# Altium schematic symbol library Handheld.SchLib: 57 symbols (part 1 of 2)
Pins are listed as number, name and electrical type; pins without a type are passive.

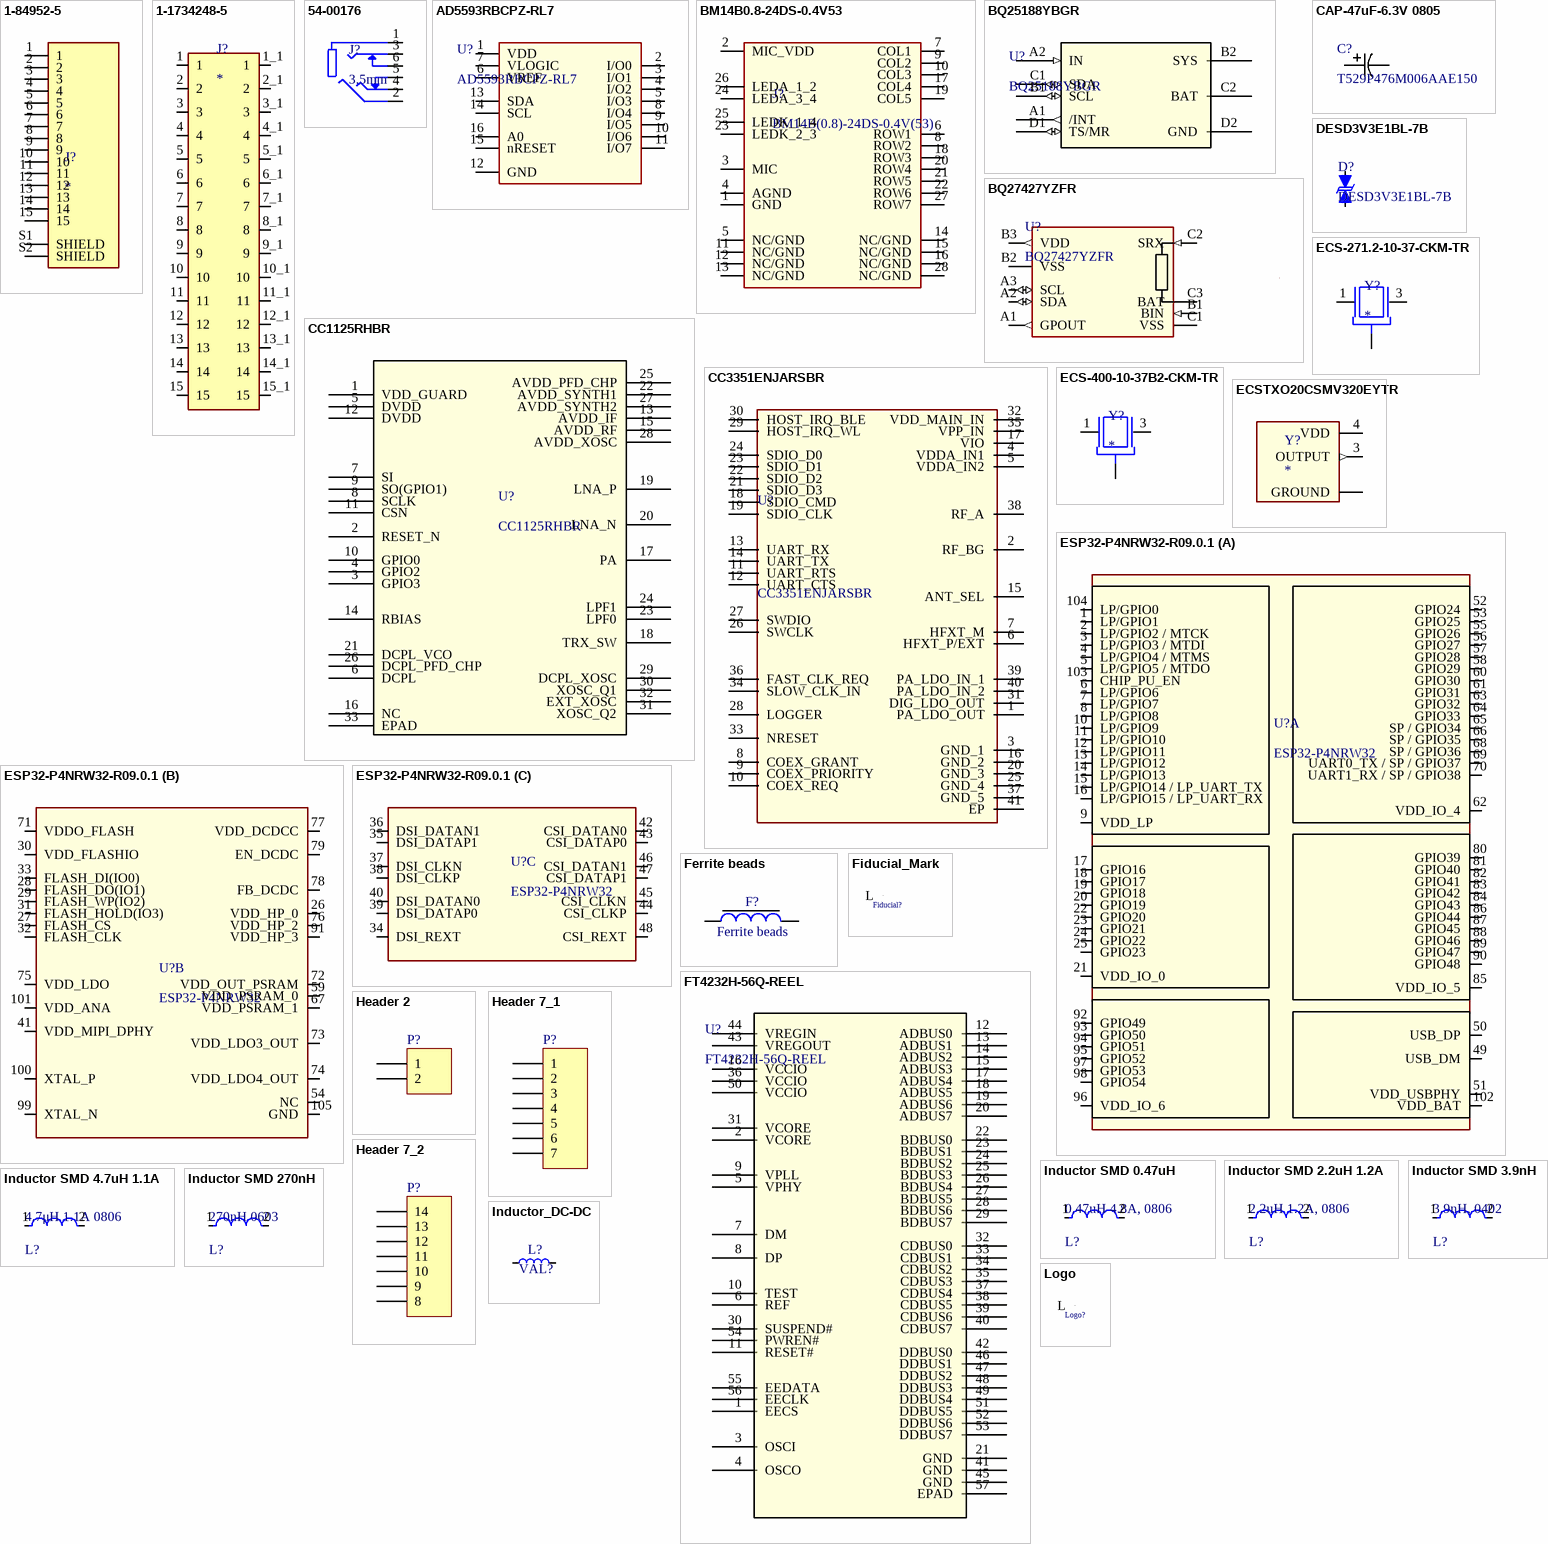
[diagram p0: symbols 1-84952-5 to Logo]

## 1-84952-5
designator J?
Conn FPC Connector SKT 15 POS 1mm Solder RA SMD T/R; MF: TE Connectivity; MP: 1-84952-5; Value: *; SnapEDA_Link: https://www.snapeda.com/parts/1-84952-5/TE+Connectivity+AMP+Connectors/view-part/?ref=snap; Purchase-URL: https://pricing.snapeda.com/search/part/1-84952-5/?ref=eda; EU_RoHS_Compliance: Compliant; Availability: In Stock; Price: None; Package: None; Check_prices: https://www.snapeda.com/parts/1-84952-5/TE+Connectivity+AMP+Connectors/view-part/?ref=eda
footprint TE_1-84952-5
pins: 1, 2, 3, 4, 5, 6, 7, 8, 9, 10, 11, 12, 13, 14, 15, S1 SHIELD, S2 SHIELD

## 1-1734248-5
designator J?
15 Position FPC Connector Contacts, Vertical - 1 Sided 0.039 (1.00mm) Surface Mount; MF: TE Connectivity; MP: 1-1734248-5; SnapEDA_Link: https://www.snapeda.com/parts/1-1734248-5/TE+Connectivity+AMP+Connectors/view-part/?ref=snap; Package: None; Value: *; Check_prices: https://www.snapeda.com/parts/1-1734248-5/TE+Connectivity+AMP+Connectors/view-part/?ref=eda
footprint TE_1-1734248-5
pins: 1, 1_1 1, 2, 2_1 2, 3, 3_1 3, 4, 4_1 4, 5, 5_1 5, 6, 6_1 6, 7, 7_1 7, 8, 8_1 8, 9, 9_1 9, 10, 10_1 10, 11, 11_1 11, 12, 12_1 12, 13, 13_1 13, 14, 14_1 14, 15, 15_1 15

## 54-00176
designator J?, comment 3.5mm
Connector, 4C audio jack, 3.5xL14 mm, thru hole, gold plated; MF: Tensility International Corp; MP: 54-00176; SnapEDA_Link: https://www.snapeda.com/parts/54-00176/Tensility/view-part/?ref=snap; Package: None; Value: *; Check_prices: https://www.snapeda.com/parts/54-00176/Tensility/view-part/?ref=eda; Supplier 1: Arrow Electronics; Supplier Part Number 1: 54-00176
footprint TENSILITY_54-00176
pins: 1, 2, 3, 4, 5, 6

## AD5593RBCPZ-RL7
designator U?
8-Channel, 12-Bit, Configurable ADC/DAC with On-Chip Reference, I2C Interface; Manufacturer_Name: Analog Devices Inc; Copyright: Copyright (C) 2025 Ultra Librarian. All rights reserved.; Manufacturer_Part_Number: AD5593RBCPZ-RL7; Datasheet: https://www.analog.com/media/en/technical-documentation/data-sheets/AD5593R.pdf; RefDes: RefDes; Type: Type
footprint CP_16_32_ADI-M
pins: 1 VDD, 2 I/O0, 3 I/O1, 4 I/O2, 5 I/O3, 6 VREF, 7 VLOGIC, 8 I/O4, 9 I/O5, 10 I/O6, 11 I/O7, 12 GND, 13 SDA, 14 SCL, 15 nRESET, 16 A0

## BM14B0.8-24DS-0.4V53
designator J?, comment BM14B(0.8)-24DS-0.4V(53)
BB Q10 keyboard connector; Manufacturer_Name: Hirose; Type: Arrays, Edge Type, Mezzanine (Board to Board); Copyright: Copyright (C) 2025 Ultra Librarian. All rights reserved.; Manufacturer_Part_Number: BM14B(0.8)-24DS-0.4V(53); RefDes: RefDes; Supplier 1: DigiKey; Supplier Part Number 1: H122178CT-ND
footprint CONN24_BM14B_HIR
pins: 1 GND, 2 MIC_VDD, 3 MIC, 4 AGND, 5 NC/GND, 6 ROW1, 7 COL1, 8 ROW2, 9 COL2, 10 COL3, 11 NC/GND, 12 NC/GND, 13 NC/GND, 14 NC/GND, 15 NC/GND, 16 NC/GND, 17 COL4, 18 ROW3, 19 COL5, 20 ROW4, 21 ROW5, 22 ROW6, 23 LEDK_2_3, 24 LEDA_3_4, 25 LEDK_1_4, 26 LEDA_1_2, 27 ROW7, 28 NC/GND

## BQ25188YBGR
designator U?
I2C, 1A single cell linear battery charger, 18V input, powerpath, ship mode and battery tracking 8-DSBGA -40 to 85; Manufacturer_Name: Texas Instruments; Copyright: Copyright (C) 2025 Ultra Librarian. All rights reserved.; Manufacturer_Part_Number: BQ25188YBGR; RefDes: RefDes; Type: Type
footprint DSBGA8_YCK_TEX
pins: A1 /INT (out), A2 IN (in), B1 SCL (io), B2 SYS (power), C1 SDA (io), C2 BAT (power), D1 TS/MR (io), D2 GND (power)

## BQ27427YZFR
designator U?
Single-cell battery fuel gauge with pre-programmed chemistry and integrated sense resistor 9-DSBGA -40 to 85; Manufacturer_Name: Texas Instruments; Copyright: Copyright (C) 2025 Ultra Librarian. All rights reserved.; Manufacturer_Part_Number: BQ27427YZFR; Datasheet: https://www.ti.com/lit/gpn/bq27427; RefDes: RefDes; Type: Type; Supplier 1: DigiKey; Supplier Part Number 1: 296-BQ27427YZFRCT-ND
footprint DSBGA9-YZF_TEX-M
pins: A1 GPOUT (out), A2 SDA (io), A3 SCL (io), B1 BIN (in), B2 VSS (power), B3 VDD (out), C1 VSS (power), C2 SRX (in), C3 BAT (power)

## CAP-47uF-6.3V 0805
designator C?, comment T529P476M006AAE150
T529, Tantalum, Polymer Tantalum, Reduced Volume, 47 uF, 20%, 6.3 VDC, SMD, Polymer, Substrate, 150 mOhms, 2012, Height Max = 1mm; Manufacturer_Name: Kemet; Copyright: Copyright (C) 2025 Ultra Librarian. All rights reserved.; Manufacturer_Part_Number: T529P476M006AAE150; Datasheet: https://content.kemet.com/datasheets/KEM_T2076_T52X-530.pdf
footprint CAPMP2.1X1.25_1N_KEM
pins: 1, 2

## CC1125RHBR
designator U?
Ultra-high performance Sub-1 GHz wireless transceiver for narrowband systems 32-VQFN -40 to 85; Manufacturer_Name: Texas Instruments; Copyright: Copyright (C) 2025 Ultra Librarian. All rights reserved.; Manufacturer_Part_Number: CC1125RHBR; RefDes: RefDes; Type: Type
footprint RHB32_3P45X3P45_TEX
pins: 1 VDD_GUARD, 2 RESET_N, 3 GPIO3, 4 GPIO2, 5 DVDD, 6 DCPL, 7 SI, 8 SCLK, 9 SO(GPIO1), 10 GPIO0, 11 CSN, 12 DVDD, 13 AVDD_IF, 14 RBIAS, 15 AVDD_RF, 16 NC, 17 PA, 18 TRX_SW, 19 LNA_P, 20 LNA_N, 21 DCPL_VCO, 22 AVDD_SYNTH1, 23 LPF0, 24 LPF1, 25 AVDD_PFD_CHP, 26 DCPL_PFD_CHP, 27 AVDD_SYNTH2, 28 AVDD_XOSC, 29 DCPL_XOSC, 30 XOSC_Q1, 31 XOSC_Q2, 32 EXT_XOSC, 33 EPAD

## CC3351ENJARSBR
designator U?
Wi-Fi 6 (802.11ax)  Bluetooth Low Energy 5.4 in CC33x1 devices  Companion IC to any processor or MCU host capable of running a TCP/IP stack  Integrated 2.4GHz and 5GHz PA for complete wireless solution with up to +20.5dBm output power.  Operating temperature: 40C to +105C  Application throughput up to 50Mbps; Manufacturer_Name: Texas Instruments; Geometry.Height: 0.8mm; Manufacturer_Part_Number: CC3351ENJARSBR; Mouser Part Number: 595-CC3351ENJARSBR; Mouser Price/Stock: https://www.mouser.co.uk/ProductDetail/Texas-Instruments/CC3351ENJARSBR?qs=iLKYxzqNS77FIPECga1PlQ%3D%3D; Arrow Part Number: CC3351ENJARSBR; Arrow Price/Stock: https://www.arrow.com/en/products/cc3351enjarsbr/texas-instruments?utm_currency=USD&region=nac; Datasheet Link: https://www.ti.com/lit/ds/symlink/cc3351.pdf?ts=1729762003874&ref_url=https%253A%252F%252Fwww.ti.com%252F
footprint RSB0040B-MFG
pins: 1 PA_LDO_OUT, 2 RF_BG, 3 GND_1, 4 VDDA_IN1, 5 VDDA_IN2, 6 HFXT_P/EXT, 7 HFXT_M, 8 COEX_GRANT, 9 COEX_PRIORITY, 10 COEX_REQ, 11 UART_RTS, 12 UART_CTS, 13 UART_RX, 14 UART_TX, 15 ANT_SEL, 16 GND_2, 17 VIO, 18 SDIO_CMD, 19 SDIO_CLK, 20 GND_3, 21 SDIO_D3, 22 SDIO_D2, 23 SDIO_D1, 24 SDIO_D0, 25 GND_4, 26 SWCLK, 27 SWDIO, 28 LOGGER, 29 HOST_IRQ_WL, 30 HOST_IRQ_BLE, 31 DIG_LDO_OUT, 32 VDD_MAIN_IN, 33 NRESET, 34 SLOW_CLK_IN, 35 VPP_IN, 36 FAST_CLK_REQ, 37 GND_5, 38 RF_A, 39 PA_LDO_IN_1, 40 PA_LDO_IN_2, 41 EP

## DESD3V3E1BL-7B
designator D?
TVS DIODE 3.3V, DFN1006-2, 13pF @ 1MHz; Manufacturer_Name: Diodes Inc; Copyright: Copyright (C) 2025 Ultra Librarian. All rights reserved.; Manufacturer_Part_Number: DESD3V3E1BL-7B; RefDes: RefDes; Type: Type
footprint CR_X1-DFN1006-2_DIO-M
pins: 1 CATHODE, 2 ANODE

## ECS-271.2-10-37-CKM-TR
designator Y?
Crystal 27.12MHz ±10ppm (Tol) ±10ppm (Stability) 10pF FUND 60Ohm 4-Pin Mini-CSMD T/R; MF: ECS Inc.; MP: ECS-400-10-37B2-CKM-TR; SnapEDA_Link: https://www.snapeda.com/parts/ECS-400-10-37B2-CKM-TR/ECS+Inc./view-part/?ref=snap; Package: ECX-1637B-37B-4 ECS; Value: *; Check_prices: https://www.snapeda.com/parts/ECS-400-10-37B2-CKM-TR/ECS+Inc./view-part/?ref=eda; Supplier 1: DigiKey; Supplier Part Number 1: XC2511CT-ND
footprint XTAL_ECS-400-10-37B2-CKM-TR
pins: 1 IN/OUT, 2 GND (power), 3 OUT/IN, 4 GND (power)

## ECS-400-10-37B2-CKM-TR
designator Y?
Crystal 40MHz ±10ppm (Tol) ±10ppm (Stability) 10pF FUND 40Ohm 4-Pin Mini-CSMD T/R; MF: ECS Inc.; MP: ECS-400-10-37B2-CKM-TR; SnapEDA_Link: https://www.snapeda.com/parts/ECS-400-10-37B2-CKM-TR/ECS+Inc./view-part/?ref=snap; Package: ECX-1637B-37B-4 ECS; Value: *; Check_prices: https://www.snapeda.com/parts/ECS-400-10-37B2-CKM-TR/ECS+Inc./view-part/?ref=eda
footprint XTAL_ECS-400-10-37B2-CKM-TR
pins: 1 IN/OUT, 2 GND (power), 3 OUT/IN, 4 GND (power)

## ECSTXO20CSMV320EYTR
designator Y?
32 MHz TCXO Clipped Sine Wave Oscillator 1.7V ~ 3.465V - 4-SMD, No Lead; MF: ECS Inc.; MP: ECS-TXO-20CSMV-320-EY-TR; SnapEDA_Link: https://www.snapeda.com/parts/ECS-TXO-20CSMV-320-EY-TR/ECS/view-part/?ref=snap; Package: ECS-TXO-20CSMV-0-4 ECS; Value: *; Check_prices: https://www.snapeda.com/parts/ECS-TXO-20CSMV-320-EY-TR/ECS/view-part/?ref=eda
footprint XTAL_ECS-400-10-37B2-CKM-TR
pins: 1 GROUND (power), 2 GROUND (power), 3 OUTPUT (out), 4 VDD (power)

## ESP32-P4NRW32-R09.0.1
designator U?, comment ESP32-P4NRW32
RISC-V 32-bit dual-core 360MHz,  32MB PSRAM, 55xGPIO
footprint QFN35P1000X1000X85_HS-105M (QFN, 104-Leads, Body 10.00x10.00mm, Pitch 0.35mm, Thermal Pad 7.55x7.55mm, IPC Low Density)
part A pins: 1 LP/GPIO1 "VDD_LP/VDD_BAT – – IO_MUX LP_IO_MUX Analog", 2 LP/GPIO2 / MTCK "VDD_LP/VDD_BAT – IE,WPU5 IO_MUX LP_IO_MUX Analog", 3 LP/GPIO3 / MTDI "VDD_LP/VDD_BAT – IE IO_MUX LP_IO_MUX Analog", 4 LP/GPIO4 / MTMS "VDD_LP – IE IO_MUX LP_IO_MUX Analog", 5 LP/GPIO5 / MTDO "VDD_LP – – IO_MUX LP_IO_MUX Analog", 6 LP/GPIO6 "VDD_LP – – IO_MUX LP_IO_MUX Analog", 7 LP/GPIO7 "VDD_LP – – IO_MUX LP_IO_MUX Analog", 8 LP/GPIO8 "VDD_LP – – IO_MUX LP_IO_MUX Analog", 9 VDD_LP "– – – – – –", 10 LP/GPIO9 "VDD_LP – – IO_MUX LP_IO_MUX Analog", 11 LP/GPIO10 "VDD_LP – – IO_MUX LP_IO_MUX Analog", 12 LP/GPIO11 "VDD_LP – – IO_MUX LP_IO_MUX Analog", 13 LP/GPIO12 "VDD_LP – – IO_MUX LP_IO_MUX Analog", 14 LP/GPIO13 "VDD_LP – – IO_MUX LP_IO_MUX Analog", 15 LP/GPIO14 / LP_UART_TX "VDD_LP – – IO_MUX LP_IO_MUX Analog", 16 LP/GPIO15 / LP_UART_RX "VDD_LP – – IO_MUX LP_IO_MUX Analog", 17 GPIO16 "VDD_IO_0 – – IO_MUX – Analog", 18 GPIO17 "VDD_IO_0 – – IO_MUX – Analog", 19 GPIO18 "VDD_IO_0 – – IO_MUX – Analog", 20 GPIO19 "VDD_IO_0 – – IO_MUX – Analog", 21 VDD_IO_0 "– – – – – –", 22 GPIO20 "VDD_IO_0 – – IO_MUX – Analog", 23 GPIO21 "VDD_IO_0 – – IO_MUX – Analog", 24 GPIO22 "VDD_IO_0 – – IO_MUX – Analog", 25 GPIO23 "VDD_IO_0 – – IO_MUX – Analog", 49 USB_DM "VDD_USBPHY – – – – –", 50 USB_DP "VDD_USBPHY – – – – –", 51 VDD_USBPHY "– – – – – –", 52 GPIO24 "VDD_IO_4 – – IO_MUX – Analog", 53 GPIO25 "VDD_IO_4 – USB_PU IO_MUX – Analog", 55 GPIO26 "VDD_IO_4 – – IO_MUX – Analog", 56 GPIO27 "VDD_IO_4 – – IO_MUX – Analog", 57 GPIO28 "VDD_IO_4 – – IO_MUX – –", 58 GPIO29 "VDD_IO_4 – – IO_MUX – –", 60 GPIO30 "VDD_IO_4 – – IO_MUX – –", 61 GPIO31 "VDD_IO_4 – – IO_MUX – –", 62 VDD_IO_4 "– – – – – –", 63 GPIO32 "VDD_IO_4 IE – IO_MUX – –", 64 GPIO33 "VDD_IO_4 IE – IO_MUX – –", 65 SP / GPIO34 "VDD_IO_4 IE – IO_MUX – –", 66 SP / GPIO35 "VDD_IO_4 IE, WPU – IO_MUX –", 68 SP / GPIO36 "VDD_IO_4 IE – IO_MUX – –", 69 UART0_TX / SP / GPIO37 "VDD_IO_4 IE – IO_MUX – –", 70 UART1_RX / SP / GPIO38 "VDD_IO_4 IE – IO_MUX – –", 80 GPIO39 "VDD_IO_5 – – IO_MUX – –", 81 GPIO40 "VDD_IO_5 – – IO_MUX – –", 82 GPIO41 "VDD_IO_5 – – IO_MUX – –", 83 GPIO42 "VDD_IO_5 – – IO_MUX – –", 84 GPIO43 "VDD_IO_5 – – IO_MUX – –", 85 VDD_IO_5 "– – – – – –", 86 GPIO44 "VDD_IO_5 – – IO_MUX – –", 87 GPIO45 "VDD_IO_5 – – IO_MUX – –", 88 GPIO46 "VDD_IO_5 – – IO_MUX – –", 89 GPIO47 "VDD_IO_5 – – IO_MUX – –", 90 GPIO48 "VDD_IO_5 – – IO_MUX – –", 92 GPIO49 "VDD_IO_6 – – IO_MUX – Analog", 93 GPIO50 "VDD_IO_6 – – IO_MUX – Analog", 94 GPIO51 "VDD_IO_6 – – IO_MUX – Analog", 95 GPIO52 "VDD_IO_6 – – IO_MUX – Analog", 96 VDD_IO_6 "– – – – – -", 97 GPIO53 "VDD_IO_6 – – IO_MUX – Analog", 98 GPIO54 "VDD_IO_6 – – IO_MUX – Analog", 102 VDD_BAT "– – – – – -", 103 CHIP_PU_EN "– – – – – –", 104 LP/GPIO0 "VDD_LP/VDD_BAT – – IO_MUX LP_IO_MUX Analog"
part B pins: 26 VDD_HP_0 "– – – – – –", 27 FLASH_CS "VDD_FLASHIO – – – – –", 28 FLASH_DO(IO1) "VDD_FLASHIO – – – – –", 29 FLASH_WP(IO2) "VDD_FLASHIO – – – – –", 30 VDD_FLASHIO "– – – – – –", 31 FLASH_HOLD(IO3) "VDD_FLASHIO – – – – –", 32 FLASH_CLK "VDD_FLASHIO – – – – –", 33 FLASH_DI(IO0) "VDD_FLASHIO – – – – –", 41 VDD_MIPI_DPHY "– – – – – –", 54 NC "– – – – – –", 59 VDD_PSRAM_0 "– – – – – –", 67 VDD_PSRAM_1 "– – – – – -", 71 VDDO_FLASH "– – – – – -", 72 VDD_OUT_PSRAM "– – – – – -", 73 VDD_LDO3_OUT "– – – – – -", 74 VDD_LDO4_OUT "– – – – – -", 75 VDD_LDO "– – – – – –", 76 VDD_HP_2 "– – – – – –", 77 VDD_DCDCC "– – – – – –", 78 FB_DCDC "– – – – – –", 79 EN_DCDC "– – – – – –", 91 VDD_HP_3 "– – – – – -", 99 XTAL_N "– – – – – -", 100 XTAL_P "– – – – – -", 101 VDD_ANA "– – – – – -", 105 GND "– – – – – –"
part C pins: 34 DSI_REXT "VDD_MIPI_DPHY – – – – –", 35 DSI_DATAP1 "VDD_MIPI_DPHY – – – – –", 36 DSI_DATAN1 "VDD_MIPI_DPHY – – – – –", 37 DSI_CLKN "VDD_MIPI_DPHY – – – – –", 38 DSI_CLKP "VDD_MIPI_DPHY – – – – –", 39 DSI_DATAP0 "VDD_MIPI_DPHY – – – – –", 40 DSI_DATAN0 "VDD_MIPI_DPHY – – – – –", 42 CSI_DATAN0 "VDD_MIPI_DPHY – – – – –", 43 CSI_DATAP0 "VDD_MIPI_DPHY – – – – –", 44 CSI_CLKP "VDD_MIPI_DPHY – – – – –", 45 CSI_CLKN "VDD_MIPI_DPHY – – – – –", 46 CSI_DATAN1 "VDD_MIPI_DPHY – – – – –", 47 CSI_DATAP1 "VDD_MIPI_DPHY – – – – –", 48 CSI_REXT "VDD_MIPI_DPHY – – – – –"

## Ferrite beads
designator F?
Value: VAL?
footprint rlc_402_smd_small (Chip SMD component 402; Body 1.0 x 0.5 mm (LxW typ);small footprint)
footprint rlc_603_smd_small (Chip SMD component 603; Body 1.6 x 0.8mm (LxW typ); small footprint)
footprint rlc_805_smd_small (Chip SMD component 805; Body 2.0 x 1.25 mm (LxW typ); small footprint)
footprint rlc_1206_smd_small (Chip SMD component 1206; Body 3.2 x 1.6 mm (LxW typ))
footprint rlc_201_smd_small (Chip SMD component 201; Body 0.6 x 0.3 mm (LxW typ); small footprint)
footprint Ferrite_201_smd (Chip SMD component 201; Body 0.6 x 0.3 mm (LxW typ); small footprint)
footprint Ferrite_402_smd (Chip SMD component 402; Body 1.0 x 0.5 mm (LxW typ);small footprint)
footprint Ferrite_603_smd (Chip SMD component 603; Body 1.6 x 0.8mm (LxW typ); small footprint)
footprint Ferrite_805_smd (Chip SMD component 805; Body 2.0 x 1.25 mm (LxW typ); small footprint)
pins: 1, 2

## Fiducial_Mark
designator Fiducial?  (value not drawn)
Schematic symbol for Logo
footprint fiducial_mark_signal_top (Fiducial mark for automatic assembly)
footprint fiducial_mark_signal_top Small (Fiducial mark for automatic assembly - small size)
pins: 0 L "Logo"

## FT4232H-56Q-REEL
designator U?
Description; Manufacturer_Name: FTDI, Future Technology Devices International Ltd; Copyright: Copyright (C) 2025 Ultra Librarian. All rights reserved.; Manufacturer_Part_Number: FT4232H-56Q-REEL; RefDes: RefDes; Type: Type
footprint VQFN-56Y856_FTD-M
pins: 1 EECS, 2 VCORE, 3 OSCI, 4 OSCO, 5 VPHY, 6 REF, 7 DM, 8 DP, 9 VPLL, 10 TEST, 11 RESET#, 12 ADBUS0, 13 ADBUS1, 14 ADBUS2, 15 ADBUS3, 16 VCCIO, 17 ADBUS4, 18 ADBUS5, 19 ADBUS6, 20 ADBUS7, 21 GND, 22 BDBUS0, 23 BDBUS1, 24 BDBUS2, 25 BDBUS3, 26 BDBUS4, 27 BDBUS5, 28 BDBUS6, 29 BDBUS7, 30 SUSPEND#, 31 VCORE, 32 CDBUS0, 33 CDBUS1, 34 CDBUS2, 35 CDBUS3, 36 VCCIO, 37 CDBUS4, 38 CDBUS5, 39 CDBUS6, 40 CDBUS7, 41 GND, 42 DDBUS0, 43 VREGOUT, 44 VREGIN, 45 GND, 46 DDBUS1, 47 DDBUS2, 48 DDBUS3, 49 DDBUS4, 50 VCCIO, 51 DDBUS5, 52 DDBUS6, 53 DDBUS7, 54 PWREN#, 55 EEDATA, 56 EECLK, 57 EPAD

## Header 2
designator P?
Header, 2-Pin; LatestRevisionDate: 17-Jul-2002; LatestRevisionNote: Re-released for DXP Platform.; Publisher: Altium Limited
footprint HDR1X2 (Connector; Header; 2 Position)
signal-integrity model Connector
footprint HDR1X2_SMD (Connector; Header; 2 Position; SMD)
footprint bridge_254mm (Generic Bridge 2.54mm, 2 Leads 0.9mm;)
footprint HARWIN_M50-3930242
pins: 1, 2

## Header 7_1
designator P?
Header, 7-Pin - Pin 1 to 7; LatestRevisionDate: 17-Jul-2002; LatestRevisionNote: Re-released for DXP Platform.; Publisher: Altium Limited
signal-integrity model Connector
footprint HDR1X7_1 (Connector; Header; 7 Position)
footprint HDR1X7_1_CASTELLATED (Connector; Header Castellated; 7 Position)
pins: 1, 2, 3, 4, 5, 6, 7

## Header 7_2
designator P?
Header, 7-Pin - Pin 8 to 14; LatestRevisionDate: 17-Jul-2002; LatestRevisionNote: Re-released for DXP Platform.; Publisher: Altium Limited
signal-integrity model Connector
footprint HDR1X7_2 (Connector; Header; 7 Position)
footprint HDR1X7_2_CASTELLATED (Connector; Header Castellated; 7 Position)
pins: 8, 9, 10, 11, 12, 13, 14

## Inductor SMD 0.47uH
designator L?, comment 0.47uH 4.8A, 0806
Multilayer Type Inductor for Power Lines, 0806 (2016), 0.47μH, 30%, 0.022Ω, 4.8A, CIGT201610EHR47MNE; DC Resistance (DCR): 175mR; Max DC Current: 1.1A; Self Resonant Frequency: 20MHz; Inductance: 4.7uH; Test Frequency: 1MHz; Core Material: Ferrite; Shielding: Shielded; Case Code (Metric): 2016; Min Operating Temperature: -40°C; Width: 1.6mm; Depth: 1.6mm; Inductance Tolerance: 30%; Max Operating Temperature: 125°C; Length: 2mm; Case Code (Imperial): 0806; Case/Package: 0806; Tolerance: 30%; Military Standard: Not; Current Rating: 1.1A; Packaging: Tape and Reel; Package Quantity: 1; Lead Free: Lead Free; Termination: SMD/SMT; Height - Seated (Max): 0.039inch; REACH SVHC: No SVHC; Mount: Surface Mount; DC Current: 1.1A; Height: 0.9mm; Supplier 1: DigiKey; Supplier Part Number 1: 1276-6902-1-ND
footprint FP-LQM2MPN_G0-IPC_B
footprint FP-LQM2MPN_G0-MFG
footprint FP-LQM2MPN_G0-IPC_A
footprint FP-LQM2MPN_G0-IPC_C
pins: 1, 2

## Inductor SMD 2.2uH 1.2A
designator L?, comment 2.2uH 1.2A, 0806
Multilayer Type Inductor for Power Lines, 0806 (2016), 4.7μH, 30%, 0.175Ω, 1.1A, LQM2MPN2R2NG0L; DC Resistance (DCR): 175mR; Self Resonant Frequency: 20MHz; Inductance: 4.7uH; Test Frequency: 1MHz; Core Material: Ferrite; Shielding: Shielded; Case Code (Metric): 2016; Min Operating Temperature: -40°C; Width: 1.6mm; Depth: 1.6mm; Max DC Current: 1.1A; Inductance Tolerance: 30%; Max Operating Temperature: 125°C; Length: 2mm; Case Code (Imperial): 0806; Case/Package: 0806; Tolerance: 30%; Military Standard: Not; Current Rating: 1.1A; Packaging: Tape and Reel; Package Quantity: 1; Lead Free: Lead Free; Termination: SMD/SMT; Height - Seated (Max): 0.039inch; REACH SVHC: No SVHC; Mount: Surface Mount; DC Current: 1.1A; Height: 0.9mm; Supplier 1: Avnet; Supplier Part Number 1: LQM2MPN2R2NG0L
footprint FP-LQM2MPN_G0-IPC_B
footprint FP-LQM2MPN_G0-MFG
footprint FP-LQM2MPN_G0-IPC_A
footprint FP-LQM2MPN_G0-IPC_C
pins: 1, 2

## Inductor SMD 3.9nH
designator L?, comment 3.9nH, 0402
3.9 nH Unshielded Multilayer Inductor 750 mA 140mOhm Max 0402 (1005 Metric); DC Resistance (DCR): 175mR; Max DC Current: 1.1A; Inductance Tolerance: 30%; Self Resonant Frequency: 20MHz; Inductance: 4.7uH; Test Frequency: 1MHz; Core Material: Ferrite; Case Code (Metric): 2016; Min Operating Temperature: -40°C; Width: 1.6mm; Depth: 1.6mm; Max Operating Temperature: 125°C; Length: 2mm; Case Code (Imperial): 0806; Case/Package: 0806; Tolerance: 30%; Military Standard: Not; Current Rating: 1.1A; Packaging: Tape and Reel; Package Quantity: 1; Shielding: Shielded; Lead Free: Lead Free; Termination: SMD/SMT; Height - Seated (Max): 0.039inch; REACH SVHC: No SVHC; Mount: Surface Mount; DC Current: 1.1A; Height: 0.9mm; Supplier 1: DigiKey; Supplier Part Number 1: 490-LQG15HS3N9B02DCT-ND
footprint INDC1005X55N
pins: 1, 2

## Inductor SMD 4.7uH 1.1A
designator L?, comment 4.7μH 1.1A 0806
Multilayer Type Inductor for Power Lines, 0806 (2016), 4.7μH, 30%, 0.175Ω, 1.1A, LQM2MPN4R7NG0L; DC Resistance (DCR): 175mR; Self Resonant Frequency: 20MHz; Inductance: 4.7uH; Test Frequency: 1MHz; Core Material: Ferrite; Shielding: Shielded; Case Code (Metric): 2016; Min Operating Temperature: -40°C; Width: 1.6mm; Depth: 1.6mm; Max DC Current: 1.1A; Inductance Tolerance: 30%; Max Operating Temperature: 125°C; Length: 2mm; Case Code (Imperial): 0806; Case/Package: 0806; Tolerance: 30%; Military Standard: Not; Current Rating: 1.1A; Packaging: Tape and Reel; Package Quantity: 1; Lead Free: Lead Free; Termination: SMD/SMT; Height - Seated (Max): 0.039inch; REACH SVHC: No SVHC; Mount: Surface Mount; DC Current: 1.1A; Height: 0.9mm; Supplier 1: Newark; Supplier Part Number 1: LQM2MPN4R7NG0L
footprint FP-LQM2MPN_G0-IPC_B
footprint FP-LQM2MPN_G0-MFG
footprint FP-LQM2MPN_G0-IPC_A
footprint FP-LQM2MPN_G0-IPC_C
pins: 1, 2

## Inductor SMD 270nH
designator L?, comment 270nH 0603
Multilayer Type Inductor for Power Lines, 0603, 270nH, 30%, 0.286Ω, 500mA, MLJ1608WR27JT000; DC Resistance (DCR): 175mR; Max DC Current: 1.1A; Self Resonant Frequency: 20MHz; Inductance: 4.7uH; Test Frequency: 1MHz; Core Material: Ferrite; Shielding: Shielded; Case Code (Metric): 2016; Min Operating Temperature: -40°C; Width: 1.6mm; Depth: 1.6mm; Inductance Tolerance: 30%; Max Operating Temperature: 125°C; Length: 2mm; Case Code (Imperial): 0806; Case/Package: 0806; Tolerance: 30%; Military Standard: Not; Current Rating: 1.1A; Packaging: Tape and Reel; Package Quantity: 1; Lead Free: Lead Free; Termination: SMD/SMT; Height - Seated (Max): 0.039inch; REACH SVHC: No SVHC; Mount: Surface Mount; DC Current: 1.1A; Height: 0.9mm; Supplier 1: Newark; Supplier Part Number 1: MLJ1608WR27JT000
footprint INDC1608X95N
pins: 1, 2

## Inductor_DC-DC
designator L?, comment value VAL?  (hidden comment: Inductor symbol)
Inductor for DC-DC; Code_IEC: 1005; Published: 15-Jun-2021; LatestRevisionDate: 15-Jun-2021 -  Semtech; LatestRevisionNote: Re-released for DXP Platform.; Publisher: Altium Limited; Code_JEITA: 0402
footprint l_603_smd (Chip SMD component 603; Body 1.6 x 0.8mm (LxW typ); small footprint)
footprint LQM21P_805_INDUCTOR_SMD (LQM21P CHIP COIL INDUCTOR for Consumer equipment & Industrial equipment - 0805 Package size)
footprint LQM18P_603_INDUCTOR_SMD (LQM18P CHIP COIL INDUCTOR for Consumer equipment & Industrial equipment - 0603 Package size)
pins: 1, 2

## Logo
designator Logo?, comment Logo symbol  (value not drawn)
Schematic symbol for Logo
footprint logo_semtech_horiz_size1 (Logo semtech horizontal - size1 - S)
footprint logo_semtech_horiz_size2 (Logo semtech horizontal - size2 - M)
footprint logo_semtech_horiz_size3 (Logo semtech horizontal - size3 - L)
footprint logo_semtech_horiz_size4 (Logo semtech horizontal - size4 - XL)
footprint Logo ESD
footprint Logo LoRa Size1 (Logo LoRa Size1 - Top Overlay - 6x4mm - Registered)
footprint Logo LoRa Size2 (Logo LoRa Size2 - Top Overlay - 9x5.5mm - Registered)
footprint Logo LoRa Size3 (Logo LoRa Size3 - Top Overlay - 14.5x8mm - Registered)
footprint Logo LoRa Size4 (Logo LoRa Size4 - Top Overlay - 18x9.5mm - Registered)
footprint Logo Recycling1
footprint Logo Recycling2
pins: 0 L "Logo"

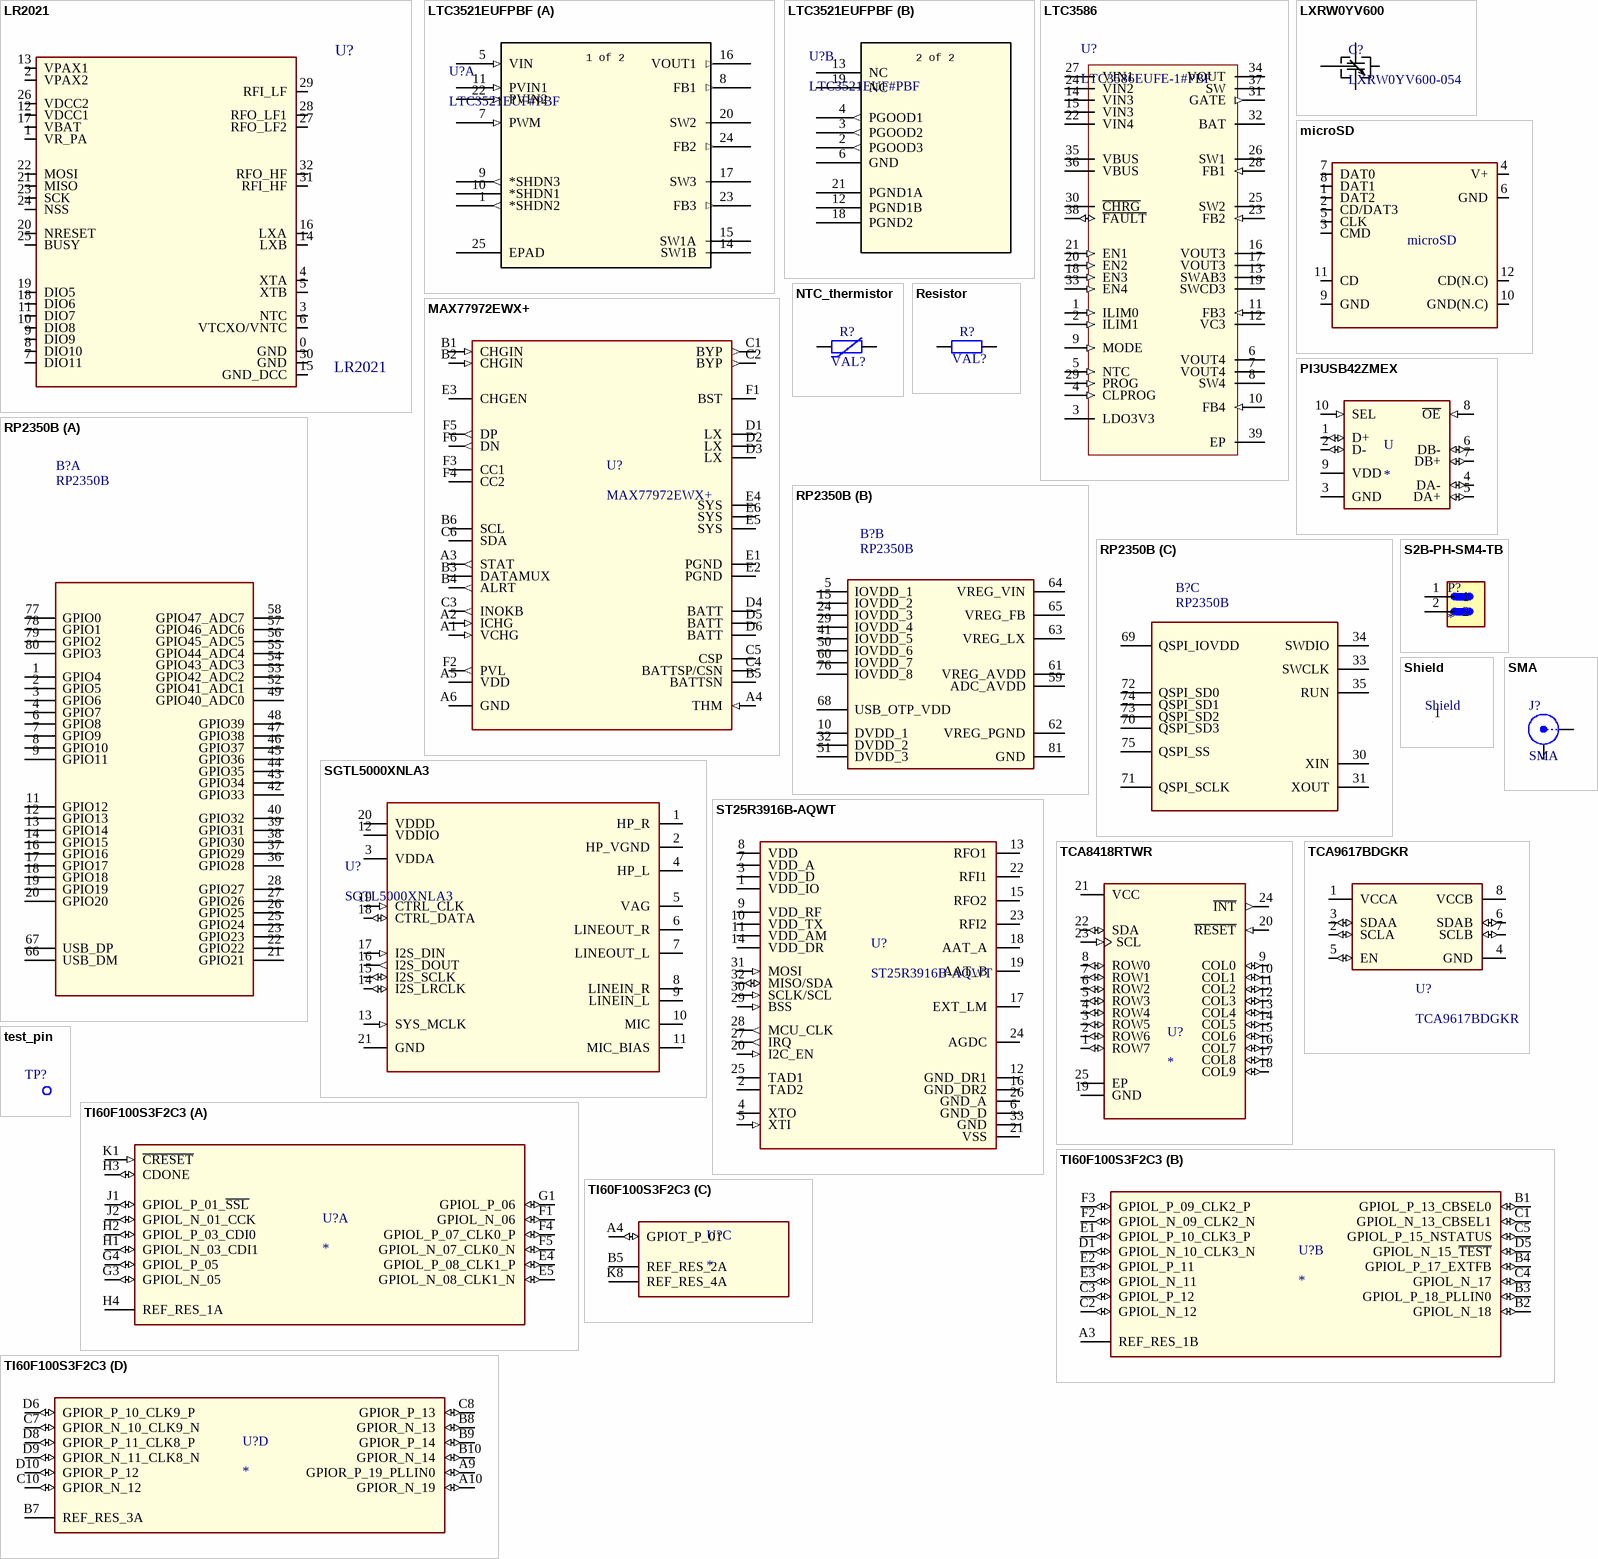
[diagram p1: symbols LR2021 to TI60F100S3F2C3]

## LR2021
designator U?
LR2021 - Low Power Integrated Low Power Multi protocol Transceiver; LatestRevisionDate: 27-Jul-2009 -  Semtech
footprint qfn32l_5x5mm (32 Leads, Body 5.0x5.0mm, Pitch 0.50mm, QFN32L)
pins: 0 GND, 1 VR_PA, 2 VPAX2, 3 NTC, 4 XTA, 5 XTB, 6 VTCXO/VNTC, 7 DIO11, 8 DIO10, 9 DIO9, 10 DIO8, 11 DIO7, 12 VDCC1, 13 VPAX1, 14 LXB, 15 GND_DCC, 16 LXA, 17 VBAT, 18 DIO6, 19 DIO5, 20 NRESET, 21 MISO, 22 MOSI, 23 SCK, 24 NSS, 25 BUSY, 26 VDCC2, 27 RFO_LF2, 28 RFO_LF1, 29 RFI_LF, 30 GND, 31 RFI_HF, 32 RFO_HF

## LTC3521EUFPBF
designator U?, comment LTC3521EUF#PBF
1A Buck-Boost DC/DC and Dual 600mA Buck DC/DC Converters; Manufacturer_Name: Analog Devices Inc; Copyright: Copyright (C) 2025 Ultra Librarian. All rights reserved.; Manufacturer_Part_Number: LTC3521EUF#PBF; Datasheet: https://www.analog.com/media/en/technical-documentation/data-sheets/3521fb.pdf; RefDes: RefDes; Type: Type
footprint QFN-24_UF_LIT-M
part A pins: 1 *SHDN2 (out), 5 VIN (in), 7 PWM (in), 8 FB1 (out), 9 *SHDN3 (out), 10 *SHDN1, 11 PVIN1 (in), 14 SW1B, 15 SW1A, 16 VOUT1 (out), 17 SW3, 20 SW2, 22 PVIN2 (in), 23 FB3 (out), 24 FB2 (out), 25 EPAD
part B pins: 2 PGOOD3 (out), 3 PGOOD2 (out), 4 PGOOD1 (out), 6 GND (power), 12 PGND1B (power), 13 NC, 18 PGND2 (power), 19 NC, 21 PGND1A (power)
part A text: 1 of 2
part B text: 2 of 2

## LTC3586
designator U?, comment LTC3586EUFE-1#PBF
High Efficiency USB Power Manager with Boost, Buck-Boost and Dual Bucks, 4.35 to 5.5 V Vin, 38-pin QFN (UFE-38), -40 to 85 degC, Pb-Free; Manufacturer: Linear Technology; Number of Cells: 1; Vin Min(V): 4.35; Number of Outputs: 4; Vin Max(V): 5.5; PartNumber: LTC3586EUFE-1#PBF; ComponentLink2URL: http://cds.linear.com/docs/en/datasheet/3586fb.pdf; PackageReference: UFE-38; ComponentLink3Description: Package Specification; ComponentLink1URL: http://www.linear.com/; Mounting Technology: Surface Mount; PackageDescription: 38-Pin Plastic QFN, Body 4 x 6 mm, Pitch 0.4 mm; PackageVersion: Rev. B, 03/2012; DatasheetVersion: Rev. B; RoHS: TRUE; ComponentLink1Description: Manufacturer URL; ComponentLink2Description: Datasheet; ComponentLink3URL: http://cds.linear.com/docs/en/datasheet/358623f.pdf
footprint LT-UFE-38_M (QFN, 38-Leads, Body 6.1x4.1mm, Pitch 0.4mm, Thermal Pad 2.65x4.65mm, IPC Low Density)
footprint LT-UFE-38_N (QFN, 38-Leads, Body 6.1x4.1mm, Pitch 0.4mm, Thermal Pad 2.65x4.65mm, IPC Medium Density)
footprint LT-UFE-38_L (QFN, 38-Leads, Body 6.1x4.1mm, Pitch 0.4mm, Thermal Pad 2.65x4.65mm, IPC High Density)
pins: 1 ILIM0 (in) "Logic Inputs. ILIM0 and ILIM1 control the current limit of the PowerPath switching regulator. See Table 1.", 2 ILIM1 (in) "Logic Inputs. ILIM0 and ILIM1 control the current limit of the PowerPath switching regulator. See Table 1.", 3 LDO3V3 (power) "3.3V LDO Output Pin. This pin provides a regulated always-on 3.3V supply voltage. LDO3V3 gets its power from VOUT. It may be used for light loads such as a watch dog microprocessor or real time clock. A 1uF capacitor is (See Datasheet)", 4 CLPROG (in) "USB Current Limit Program and Monitor Pin. A resistor from CLPROG to ground determines the upper limit of the current drawn from the VBUS pin. A fraction of the VBUS current is sent to the CLPROG pin when the synchronous (See Datasheet)", 5 NTC (in) "Input to the Thermistor Monitoring Circuits. The NTC pin connects to a battery’s thermistor to determine if the battery is too hot or too cold to charge. If the battery’s temperature is out of range, charging is pau(See Datasheet)", 6 VOUT4 (power) "Power Output for the (Boost) Switching Regulator 4. A 10uF MLCC capacitor should be placed as close to the pins as possible.", 7 VOUT4 (power) "Power Output for the (Boost) Switching Regulator 4. A 10uF MLCC capacitor should be placed as close to the pins as possible.", 8 SW4 "Switch Node for the (Boost) Switching Regulator 4. An external inductor connects between this pin and VIN4.", 9 MODE (in) "Digital Input. The MODE pin controls different modes of operation for the switching regulators according to Table 2.", 10 FB4 (in) "Feedback Input for the (Boost) Switching Regulator 4. When the control loop is complete, the voltage on this pin servos to 0.8V.", 11 FB3 (in) "Feedback Input for (Buck-Boost) Switching Regulator 3. When regulator 3’s control loop is complete, this pin servos to 0.8V.", 12 VC3 "Output of the Error Amplifier and Voltage Compensation Node for (Buck-Boost) Switching Regulator 3. External Type I or Type III compensation (to FB3) connects to this pin. See the Applications Information section for (See Datasheet)", 13 SWAB3 "Switch Node for (Buck-Boost) Switching Regulator 3. Connected to Internal Power Switches A and B. An external inductor connects between this node and SWCD3.", 14 VIN3 (power) "Power Input for (Buck-Boost) Switching Regulator 3. These pins will generally be connected to VOUT. A 1uF MLCC capacitor is recommended on these pins.", 15 VIN3 (power) "Power Input for (Buck-Boost) Switching Regulator 3. These pins will generally be connected to VOUT. A 1uF MLCC capacitor is recommended on these pins.", 16 VOUT3 (power) "Output Voltage for (Buck-Boost) Switching Regulator 3.", 17 VOUT3 (power) "Output Voltage for (Buck-Boost) Switching Regulator 3.", 18 EN3 (in) "Digital Input. This input enables the buck-boost switching regulator 3.", 19 SWCD3 "Switch Node for (Buck-Boost) Switching Regulator 3 Connected to Internal Power Switches C and D. An external inductor connects between this node and SWAB3.", 20 EN2 (in) "Digital Input. This input enables the buck switching regulator 2.", 21 EN1 (in) "Digital Input. This input enables the buck switching regulator 1.", 22 VIN4 (power) "Power Input for Switching Regulator 4 (Boost). This pin will generally be connected to VOUT. A 1uF MLCC capacitor is recommended on this pin.", 23 FB2 (in) "Feedback Input for (Buck) Switching Regulator 2. When regulator 2’s control loop is complete, this pin servos to 0.8V.", 24 VIN2 (power) "Power Input for (Buck) Switching Regulator 2. This pin will generally be connected to VOUT. A 1uF MLCC capacitor is recommended on this pin.", 25 SW2 (power) "Power Transmission Pin for (Buck) Switching Regulator 2.", 26 SW1 (power) "Power Transmission Pin for (Buck) Switching Regulator 1.", 27 VIN1 (power) "Power Input for (Buck) Switching Regulator 1. This pin will generally be connected to VOUT. A 1uF MLCC capacitor is recommended on this pin.", 28 FB1 (in) "Feedback Input for (Buck) Switching Regulator 1. When regulator 1’s control loop is complete, this pin servos to 0.8V.", 29 PROG (in) "Charge Current Program and Charge Current Monitor Pin. Connecting a resistor from PROG to ground programs the charge current. If sufficient input power is available in constant-current mode, this pin servos to 1V. The (See Datasheet)", 30 ~{CHRG} (hiz) "Open-Drain Charge Status Output. The C\H\R\G\ pin indicates the status of the battery charger. Four possible states are represented by C\H\R\G\: charging, not charging, unresponsive battery and battery temperature out of (See Datasheet)", 31 GATE (out) "Analog Output. This pin controls the gate of an optional external P-channel MOSFET transistor used to supplement the ideal diode between VOUT and BAT. The external ideal diode operates in parallel with the internal ideal (See Datasheet)", 32 BAT (power) "Single Cell Li-Ion Battery Pin. Depending on available VBUS power, a Li-Ion battery on BAT will either deliver power to VOUT through the ideal diode or be charged from VOUT via the battery charger.", 33 EN4 (in) "Digital Input. This input enables the boost switching regulator 4.", 34 VOUT (power) "Output Voltage of the Switching PowerPath Controller and Input Voltage of the Battery Charger. The majority of the portable product should be powered from VOUT. The LTC3586/LTC3586-1 will partition the available power (See Datasheet)", 35 VBUS (power) "Primary Input Power Pin. These pins deliver power to VOUT via the SW pin by drawing controlled current from a DC source such as a USB port or wall adapter.", 36 VBUS (power) "Primary Input Power Pin. These pins deliver power to VOUT via the SW pin by drawing controlled current from a DC source such as a USB port or wall adapter.", 37 SW (power) "Power Transmission Pin for the USB Power Path. The SW pin delivers power from VBUS to VOUT via the buck switching regulator. A 3.3uH inductor should be connected from SW to VOUT.", 38 ~{FAULT} (io) "Bi-directional input/output (open-drain) used to alert or receive information from other power management ICs regarding an electrical fault.", 39 EP (power) "Ground. The exposed pad should be connected to a continuous ground plane on the second layer of the printed circuit board by several vias directly under the LTC3586/LTC3586-1."

## LXRW0YV600
designator C?, comment LXRW0YV600-054
Variable capacitor 30-60pF; Supplier 1: DigiKey; Supplier Part Number 1: 490-18379-1-ND
footprint LXRW0_MUR-M
pins: 1 GND (power), 2 VT, 3 PORT1 (io), 4 PORT2 (io)

## MAX77972EWX+
designator U?
AccuCharge + ModelGauge 1-Cell Fuel Gauge and 3A Charger with Integrated USB Type-C Detection; Manufacturer_Name: Analog Devices Inc; Copyright: Copyright (C) 2025 Ultra Librarian. All rights reserved.; Manufacturer_Part_Number: MAX77972EWX+; RefDes: RefDes; Type: Type
footprint 21-100517_W363B3+1_ADI
pins: A1 VCHG (in), A2 ICHG (in), A3 STAT (out), A4 THM (in), A5 VDD (power), A6 GND (power), B1 CHGIN (in), B2 CHGIN (in), B3 DATAMUX, B4 ALRT (out), B5 BATTSN, B6 SCL, C1 BYP (out), C2 BYP (out), C3 INOKB (out), C4 BATTSP/CSN, C5 CSP, C6 SDA, D1 LX, D2 LX, D3 LX, D4 BATT (power), D5 BATT (power), D6 BATT (power), E1 PGND (power), E2 PGND (power), E3 CHGEN, E4 SYS, E5 SYS, E6 SYS, F1 BST (power), F2 PVL (out), F3 CC1, F4 CC2, F5 DP (out), F6 DN (out)

## microSD
designator microSD
wurth µSD connector
footprint microSD
pins: 1 DAT2, 2 CD/DAT3, 3 CMD, 4 V+, 5 CLK, 6 GND, 7 DAT0, 8 DAT1, 9 GND, 10 GND(N.C) "Do not connect", 11 CD, 12 CD(N.C) "Do not connect"

## NTC_thermistor
designator R?, comment value VAL?  (hidden comment: NTC)
Resistor SMD - IEC symbol version; LatestRevisionDate: 27-Jul-20  -  Semtech
footprint rlc_805_smd_small (Chip SMD component 805; Body 2.0 x 1.25 mm (LxW typ); small footprint)
footprint rlc_1206_smd_small (Chip SMD component 1206; Body 3.2 x 1.6 mm (LxW typ))
footprint r_201_smd (Chip SMD component 201; Body 0.6 x 0.3 mm (LxW typ); small footprint)
footprint r_402_smd (Chip SMD component 402; Body 1.0 x 0.5 mm (LxW typ);small footprint)
footprint r_603_smd (Chip SMD component 603; Body 1.6 x 0.8mm (LxW typ); small footprint)
pins: 1, 2

## PI3USB42ZMEX
designator U
USB Switch IC 1 Channel 10-UQFN (1.8x1.4); MP: PI3USB42ZMEX; MF: Diodes Inc.; Value: *; Availability: Unavailable; Package: UQFN-10 Diodes Inc.; SnapEDA_Link: https://www.snapeda.com/parts/PI3USB42ZMEX/Diodes%20Inc./view-part/1218281/?ref=snap; Price: None
footprint QFN40P140X180X60-10N
pins: 1 D+ (io), 2 D- (io), 3 GND (power), 4 DA- (io), 5 DA+ (io), 6 DB- (io), 7 DB+ (io), 8 ~{OE} (in), 9 VDD (power), 10 SEL (in)

## Resistor
designator R?  value VAL?  (hidden comment: Resistor)
Resistor SMD - IEC symbol version; LatestRevisionDate: 27-Jul-20  -  Semtech
footprint rlc_805_smd_small (Chip SMD component 805; Body 2.0 x 1.25 mm (LxW typ); small footprint)
footprint rlc_1206_smd_small (Chip SMD component 1206; Body 3.2 x 1.6 mm (LxW typ))
footprint r_201_smd (Chip SMD component 201; Body 0.6 x 0.3 mm (LxW typ); small footprint)
footprint r_402_smd (Chip SMD component 402; Body 1.0 x 0.5 mm (LxW typ);small footprint)
footprint r_603_smd (Chip SMD component 603; Body 1.6 x 0.8mm (LxW typ); small footprint)
pins: 1, 2

## RP2350B
designator B?
Dual Arm Cortex-M33 or dual Hazard3 RISC-V processors @ 150MHz; Manufacturer_Name: RASPBERRY-PI; Geometry.Height: 0.9mm; Manufacturer_Part_Number: RP2350B; Mouser Part Number: *; Mouser Price/Stock: *; Arrow Part Number: *; Arrow Price/Stock: *; Datasheet Link: https://datasheets.raspberrypi.com/rp2350/rp2350-product-brief.pdf
footprint QFN40P1000X1000X90-81N-D
part A pins: 1 GPIO4, 2 GPIO5, 3 GPIO6, 4 GPIO7, 6 GPIO8, 7 GPIO9, 8 GPIO10, 9 GPIO11, 11 GPIO12, 12 GPIO13, 13 GPIO14, 14 GPIO15, 16 GPIO16, 17 GPIO17, 18 GPIO18, 19 GPIO19, 20 GPIO20, 21 GPIO21, 22 GPIO22, 23 GPIO23, 25 GPIO24, 26 GPIO25, 27 GPIO26, 28 GPIO27, 36 GPIO28, 37 GPIO29, 38 GPIO30, 39 GPIO31, 40 GPIO32, 42 GPIO33, 43 GPIO34, 44 GPIO35, 45 GPIO36, 46 GPIO37, 47 GPIO38, 48 GPIO39, 49 GPIO40_ADC0, 52 GPIO41_ADC1, 53 GPIO42_ADC2, 54 GPIO43_ADC3, 55 GPIO44_ADC4, 56 GPIO45_ADC5, 57 GPIO46_ADC6, 58 GPIO47_ADC7, 66 USB_DM, 67 USB_DP, 77 GPIO0, 78 GPIO1, 79 GPIO2, 80 GPIO3
part B pins: 5 IOVDD_1, 10 DVDD_1, 15 IOVDD_2, 24 IOVDD_3, 29 IOVDD_4, 32 DVDD_2, 41 IOVDD_5, 50 IOVDD_6, 51 DVDD_3, 59 ADC_AVDD, 60 IOVDD_7, 61 VREG_AVDD, 62 VREG_PGND, 63 VREG_LX, 64 VREG_VIN, 65 VREG_FB, 68 USB_OTP_VDD, 76 IOVDD_8, 81 GND
part C pins: 30 XIN, 31 XOUT, 33 SWCLK, 34 SWDIO, 35 RUN, 69 QSPI_IOVDD, 70 QSPI_SD3, 71 QSPI_SCLK, 72 QSPI_SD0, 73 QSPI_SD2, 74 QSPI_SD1, 75 QSPI_SS

## S2B-PH-SM4-TB
designator P?
Connector Header Surface Mount, Right Angle 2 position 0.079 (2.00mm); MF: JST Sales; MP: S2B-PH-SM4-TB; SnapEDA_Link: https://www.snapeda.com/parts/S2B-PH-SM4-TB/JST/view-part/?ref=snap; Package: None; Value: *; Check_prices: https://www.snapeda.com/parts/S2B-PH-SM4-TB/JST/view-part/?ref=eda
footprint JST_S2B-PH-SM4-TB
pins: 1, 2

## SGTL5000XNLA3
designator U?
IC AUDIO CODEC STEREO 20-QFN; Manufacturer_Name: NXP; Copyright: Copyright (C) 2025 Ultra Librarian. All rights reserved.; Manufacturer_Part_Number: SGTL5000XNLA3; RefDes: RefDes; Type: Type; Supplier 1: Newark; Supplier Part Number 1: SGTL5000XNLA3
footprint HUQFN20_SOT1628-1_NXP-M
pins: 1 HP_R, 2 HP_VGND (power), 3 VDDA (power), 4 HP_L, 5 VAG, 6 LINEOUT_R, 7 LINEOUT_L, 8 LINEIN_R, 9 LINEIN_L, 10 MIC, 11 MIC_BIAS, 12 VDDIO (power), 13 SYS_MCLK (in), 14 I2S_LRCLK (io), 15 I2S_SCLK (io), 16 I2S_DOUT (out), 17 I2S_DIN (in), 18 CTRL_DATA (io), 19 CTRL_CLK (in), 20 VDDD (power), 21 GND (power)

## Shield
designator Shield, comment RF Shield  (value not drawn)
RF Shield - EMI Gasket - Standard Surface Mount Shields
footprint Custom shield LR2021 (Shielding Cabinet, SMD Frame, body mm)
pins: 1 "Shield"

## SMA
designator J?
SMA End Launch Connector; LatestRevisionDate: 05-oct-2007  -  Semtech; LatestRevisionNote: Re-released for DXP Platform.; Publisher: Altium Limited
footprint SMA_end_launch_1.0mm_9.52mm (SMA end launch for 1.0mm PCB thickness; 9.52mm)
footprint SMA_end_launch_1.0mm_9.52mm_female (SMA end launch for 1.0mm PCB thickness; 9.52mm)
footprint SMA_end_launch_1.0mm_9.52mm_male (SMA end launch for 1.0mm PCB thickness; 9.52mm)
footprint SMA_end_launch_1.2mm_6.35mm_female (SMA end launch for 1.2mm PCB thickness; 6.35mm)
pins: 1 Signal "RF signal", 2 GND "Ground signal"

## ST25R3916B-AQWT
designator U?
NFC reader for payment, consumer and industrial; Manufacturer_Name: STMicroelectronics; Type: RFID, RF Access, Monitoring ICs; Copyright: Copyright (C) 2025 Ultra Librarian. All rights reserved.; Manufacturer_Part_Number: ST25R3916B-AQWT; RefDes: RefDes
footprint VFQFPN32_5X5_WETTABLE_STM-M
pins: 1 VDD_IO (power), 2 TAD2, 3 VDD_D, 4 XTO, 5 XTI (in), 6 GND_D (power), 7 VDD_A, 8 VDD (power), 9 VDD_RF, 10 VDD_TX (power), 11 VDD_AM, 12 GND_DR1 (power), 13 RFO1, 14 VDD_DR (power), 15 RFO2, 16 GND_DR2 (power), 17 EXT_LM, 18 AAT_A, 19 AAT_B, 20 I2C_EN (in), 21 VSS (power), 22 RFI1, 23 RFI2, 24 AGDC, 25 TAD1, 26 GND_A (power), 27 IRQ (out), 28 MCU_CLK (out), 29 BSS (in), 30 SCLK/SCL (in), 31 MOSI (in), 32 MISO/SDA (io), 33 GND (power)

## TCA8418RTWR
designator U?
I2C Controlled Keypad Scan IC With Integrated ESD Protection 24-WQFN -40 to 85; MF: Texas Instruments; MP: TCA8418RTWR; Purchase-URL: https://pricing.snapeda.com/search/part/TCA8418RTWR/?ref=eda; Value: *; SnapEDA_Link: https://www.snapeda.com/parts/TCA8418RTWR/Texas%20Instruments/view-part/229165/?ref=snap; Package: WQFN-24 Texas Instruments; Digi-Key_Part_Number: 296-25223-1-ND; Check_prices: https://www.snapeda.com/parts/TCA8418RTWR/Texas%20Instruments/view-part/229165/?ref=eda
footprint QFN50P400X400X80-25N
pins: 1 ROW7 (io), 2 ROW6 (io), 3 ROW5 (io), 4 ROW4 (io), 5 ROW3 (io), 6 ROW2 (io), 7 ROW1 (io), 8 ROW0 (io), 9 COL0 (io), 10 COL1 (io), 11 COL2 (io), 12 COL3 (io), 13 COL4 (io), 14 COL5 (io), 15 COL6 (io), 16 COL7 (io), 17 COL8 (io), 18 COL9 (io), 19 GND (power), 20 ~{RESET} (in), 21 VCC (power), 22 SDA (io), 23 SCL (in), 24 ~{INT} (out), 25 EP

## TCA9617BDGKR
designator U?
2-bit level-translating 1-MHz I2C/SMBus buffer/repeater with powered-off high-impedance; MF: Texas Instruments; SnapEDA_Link: https://www.snapeda.com/parts/TCA9617BDGKR/Texas+Instruments/view-part/?ref=snap; Package: VSSOP-8 Texas Instruments; Value: *; MP: TCA9617BDGKR; Check_prices: https://www.snapeda.com/parts/TCA9617BDGKR/Texas+Instruments/view-part/?ref=eda; Supplier 1: Arrow Electronics; Supplier Part Number 1: TCA9617BDGKR
footprint SOP65P490X110-8N
pins: 1 VCCA (power), 2 SCLA (io), 3 SDAA (io), 4 GND (power), 5 EN (io), 6 SDAB (io), 7 SCLB (io), 8 VCCB (power)

## test_pin
designator TP?, comment Test Pin  (value not drawn)
LatestRevisionDate: 05-oct-2007  -  Semtech
footprint pin_1mm (Generic Pin 1.1mm; 1 Lead)
footprint pin_1.1mm (Generic Pin 1.1mm; 1 Lead)
footprint pin_0.9mm (Generic Pin 0.9mm; 1 Lead)
footprint PIN_SMD (Generic Pin SMD; 1 Lead)
footprint pin_0.8mm (Generic Pin 0.8mm; 1 Lead)
footprint PIN_SMD_SQUARE (Generic Pin SMD; 1 Lead)
pins: 1 pin "Test Pin"

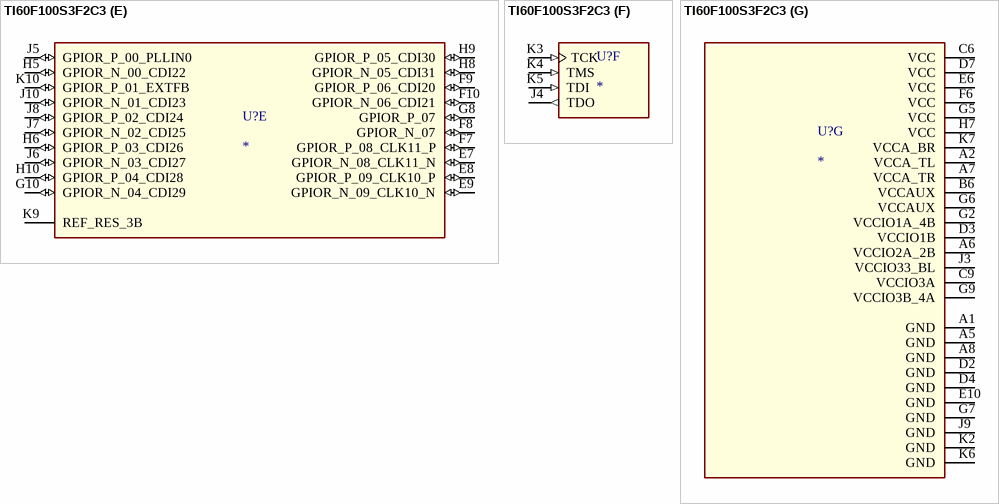
[diagram p2: symbol TI60F100S3F2C3]

## TI60F100S3F2C3
designator U?
Titaniumâ„¢ Field Programmable Gate Array (FPGA) IC 61 2726298 62016 100-BGA; MP: TI60F100S3F2C3; MF: Efinix, Inc.; Purchase-URL: https://pricing.snapeda.com/search/part/TI60F100S3F2C3/?ref=eda; Value: *; SnapEDA_Link: https://www.snapeda.com/parts/TI60F100S3F2C3/Efinix/view-part/?ref=snap; Price: None; Package: None; Check_prices: https://www.snapeda.com/parts/TI60F100S3F2C3/Efinix/view-part/?ref=eda; Availability: In Stock
footprint IC_TI60F100S3F2C3
part A pins: E4 GPIOL_P_08_CLK1_P (io), E5 GPIOL_N_08_CLK1_N (io), F1 GPIOL_N_06 (io), F4 GPIOL_P_07_CLK0_P (io), F5 GPIOL_N_07_CLK0_N (io), G1 GPIOL_P_06 (io), G3 GPIOL_N_05 (io), G4 GPIOL_P_05 (io), H1 GPIOL_N_03_CDI1 (io), H2 GPIOL_P_03_CDI0 (io), H3 CDONE (io), H4 REF_RES_1A, J1 GPIOL_P_01_~{SSL} (io), J2 GPIOL_N_01_CCK (io), K1 ~{CRESET} (in)
part B pins: A3 REF_RES_1B, B1 GPIOL_P_13_CBSEL0 (io), B2 GPIOL_N_18 (io), B3 GPIOL_P_18_PLLIN0 (io), B4 GPIOL_P_17_EXTFB (io), C1 GPIOL_N_13_CBSEL1 (io), C2 GPIOL_N_12 (io), C3 GPIOL_P_12 (io), C4 GPIOL_N_17 (io), C5 GPIOL_P_15_NSTATUS (io), D1 GPIOL_N_10_CLK3_N (io), D5 GPIOL_N_15_~{TEST} (io), E1 GPIOL_P_10_CLK3_P (io), E2 GPIOL_P_11 (io), E3 GPIOL_N_11 (io), F2 GPIOL_N_09_CLK2_N (io), F3 GPIOL_P_09_CLK2_P (io)
part C pins: A4 GPIOT_P_01 (io), B5 REF_RES_2A, K8 REF_RES_4A
part D pins: A9 GPIOR_P_19_PLLIN0 (io), A10 GPIOR_N_19 (io), B7 REF_RES_3A, B8 GPIOR_N_13 (io), B9 GPIOR_P_14 (io), B10 GPIOR_N_14 (io), C7 GPIOR_N_10_CLK9_N (io), C8 GPIOR_P_13 (io), C10 GPIOR_N_12 (io), D6 GPIOR_P_10_CLK9_P (io), D8 GPIOR_P_11_CLK8_P (io), D9 GPIOR_N_11_CLK8_N (io), D10 GPIOR_P_12 (io)
part E pins: E7 GPIOR_N_08_CLK11_N (io), E8 GPIOR_P_09_CLK10_P (io), E9 GPIOR_N_09_CLK10_N (io), F7 GPIOR_P_08_CLK11_P (io), F8 GPIOR_N_07 (io), F9 GPIOR_P_06_CDI20 (io), F10 GPIOR_N_06_CDI21 (io), G8 GPIOR_P_07 (io), G10 GPIOR_N_04_CDI29 (io), H5 GPIOR_N_00_CDI22 (io), H6 GPIOR_P_03_CDI26 (io), H8 GPIOR_N_05_CDI31 (io), H9 GPIOR_P_05_CDI30 (io), H10 GPIOR_P_04_CDI28 (io), J5 GPIOR_P_00_PLLIN0 (io), J6 GPIOR_N_03_CDI27 (io), J7 GPIOR_N_02_CDI25 (io), J8 GPIOR_P_02_CDI24 (io), J10 GPIOR_N_01_CDI23 (io), K9 REF_RES_3B, K10 GPIOR_P_01_EXTFB (io)
part F pins: J4 TDO (out), K3 TCK (in), K4 TMS (in), K5 TDI (in)
part G pins: A1 GND (power), A2 VCCA_TL (power), A5 GND (power), A6 VCCIO2A_2B (power), A7 VCCA_TR (power), A8 GND (power), B6 VCCAUX (power), C6 VCC (power), C9 VCCIO3A (power), D2 GND (power), D3 VCCIO1B (power), D4 GND (power), D7 VCC (power), E6 VCC (power), E10 GND (power), F6 VCC (power), G2 VCCIO1A_4B (power), G5 VCC (power), G6 VCCAUX (power), G7 GND (power), G9 VCCIO3B_4A (power), H7 VCC (power), J3 VCCIO33_BL (power), J9 GND (power), K2 GND (power), K6 GND (power), K7 VCCA_BR (power)

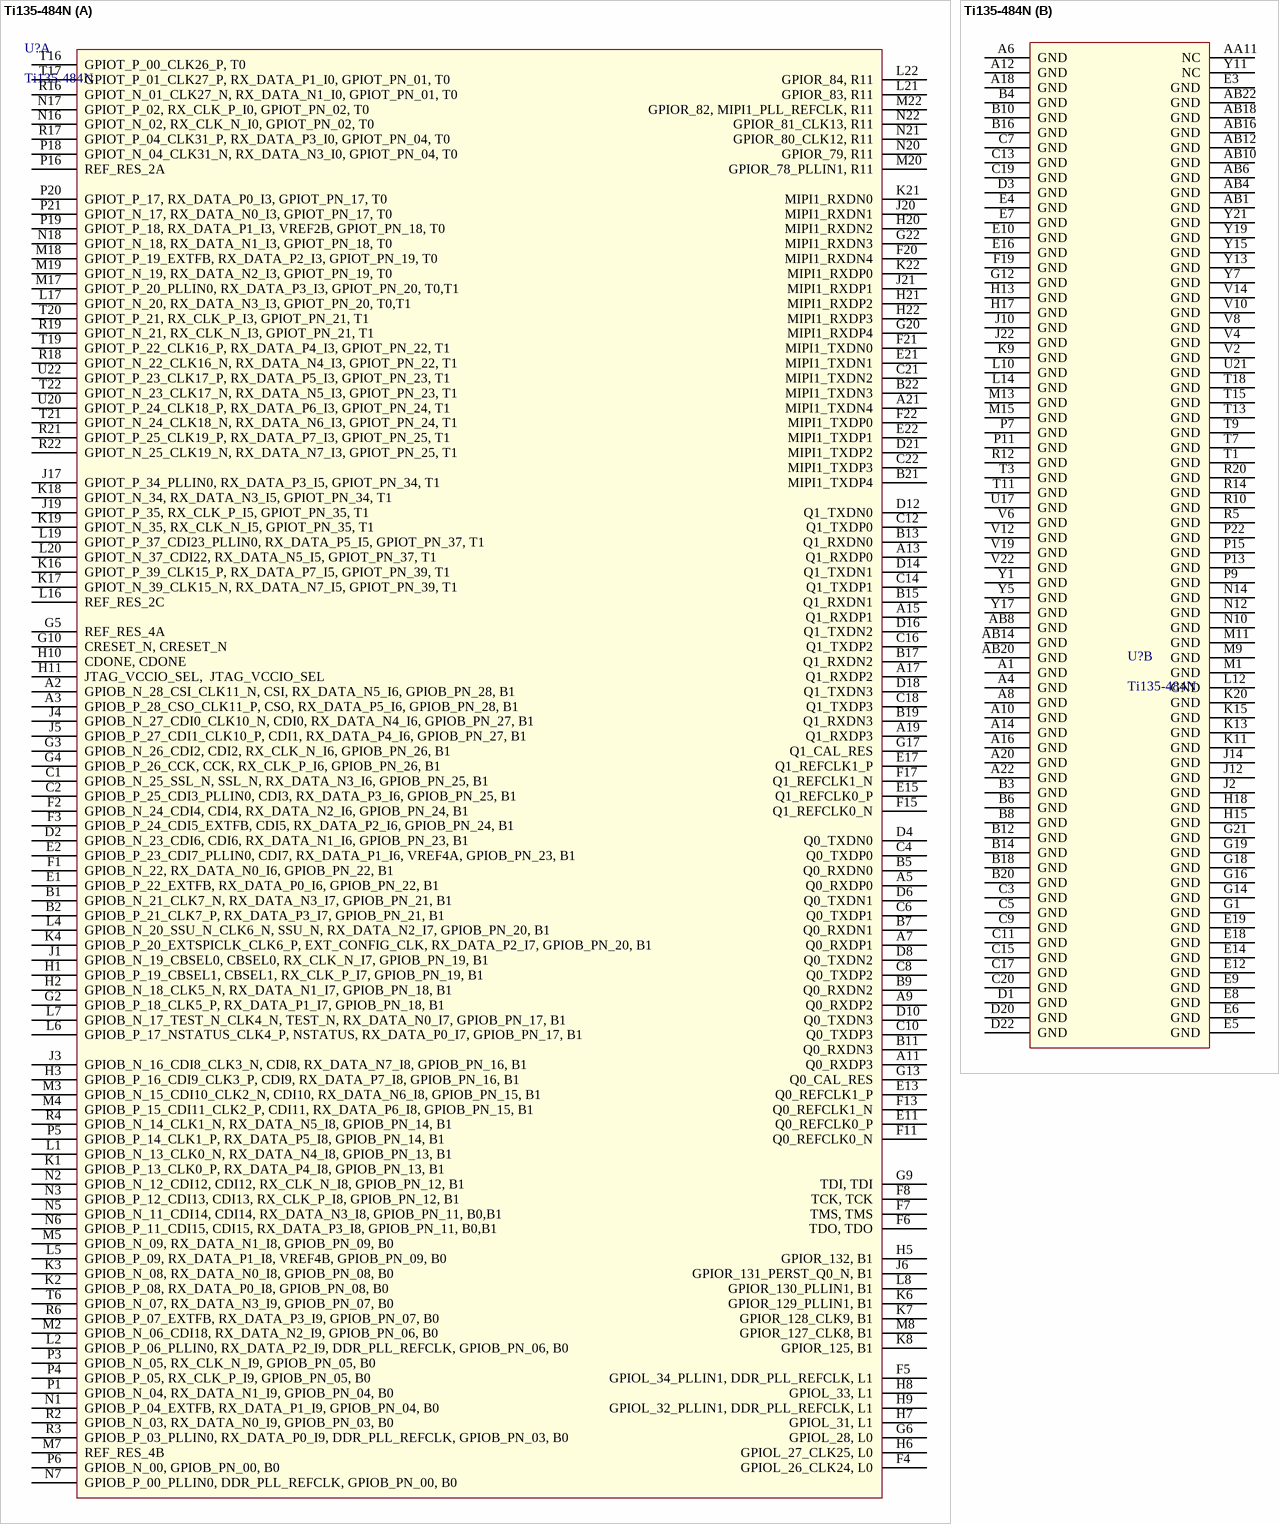
[diagram p3: symbol Ti135-484N]

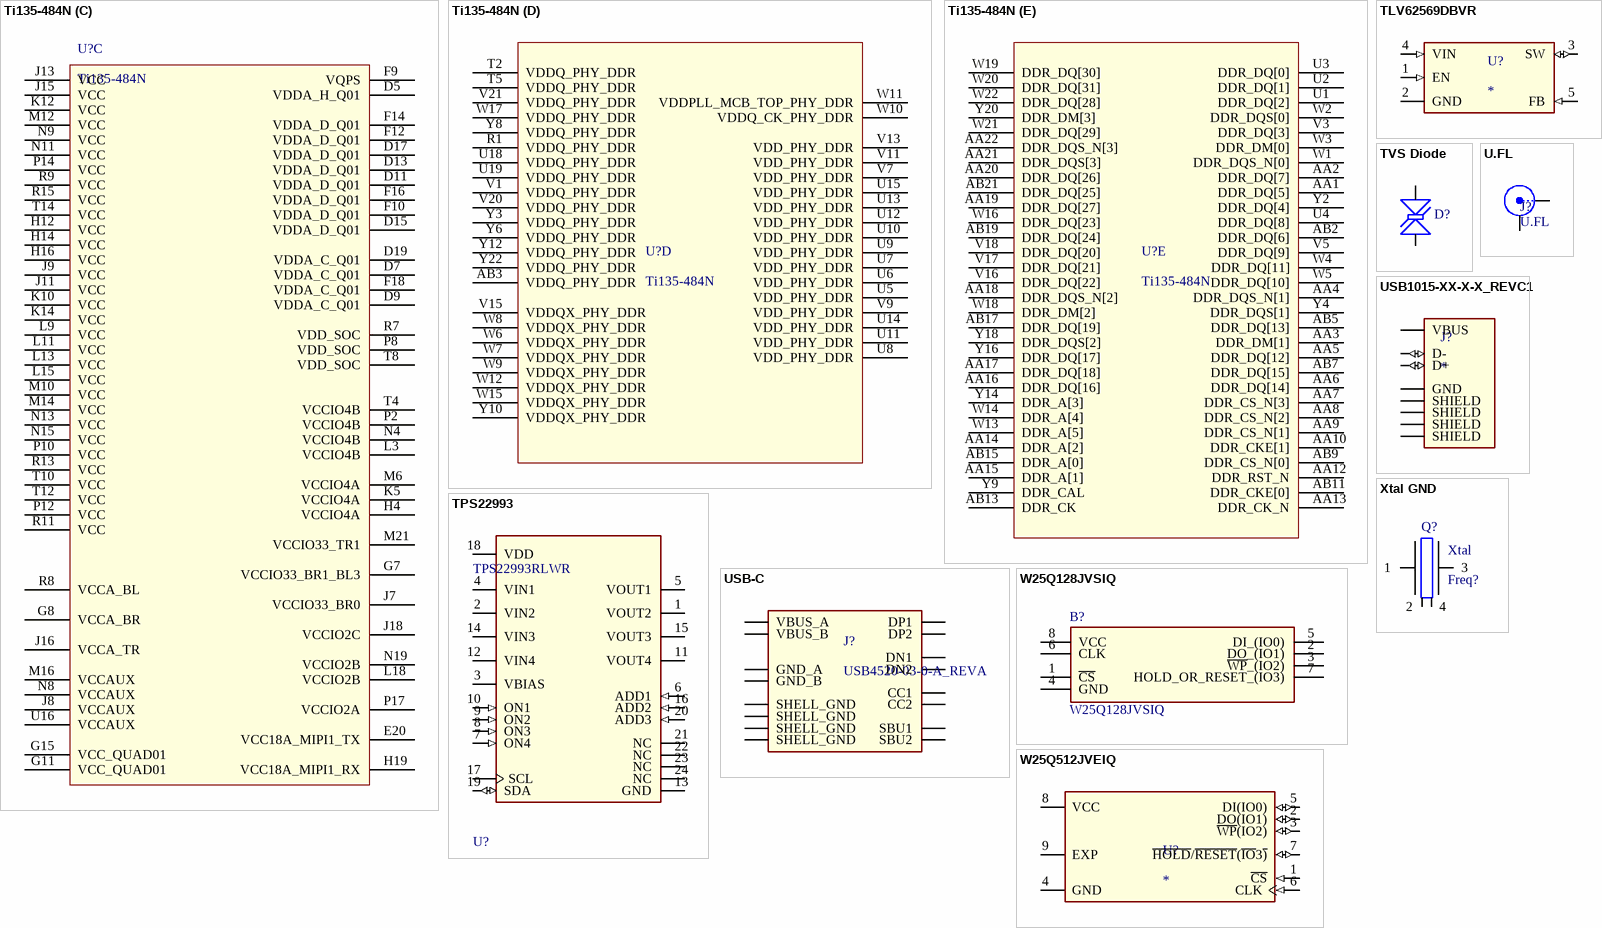
[diagram p4: symbols Ti135-484N to Xtal GND]